# EAGLE library part PSOC4100-CY8C4124PVI-432 (library openag-microcontrollers)
IC MCU 32BIT 16KB FLASH 28SSOP Description: ARM® Cortex®-M0 PSOC® 4 CY8C41xx Microcontroller IC 32-Bit 24MHz 16KB (16K x 8) FLASH 28-SSOP Technical Specifications: Core Processor: ARM® Cortex®-M0 Core Size: 32-Bit Core Speed: 24 MHz Connectivity: I²C, IrDA, LIN, Microwire, SmartCard, SPI, SSP, UART/USART Peripherals: Brown-out Detect/Reset, LVD, POR, PWM, WDT Number of IO: 24 Program Memory Size: 16KB (16K x 8) Program Memory Type: FLASH RAM Size: 4K x 8 Supply Voltage: 1.71 V ~ 5.5 V Data Converters: A/D 8x12b Oscillator Type: Internal Operating Temperature: -40°C ~ 85°C (TA) Package / Case: 28-SSOP (0.209", 5.30mm Width) Datasheet(s): PSoC 4100 Family <http://www.cypress.com/file/138651/download> Vendor(s): Digikey: 428-3348-ND <https://www.digikey.com/product-detail/en/cypress-semiconductor-corp/CY8C4124PVI-432/428-3348-ND/4895074>
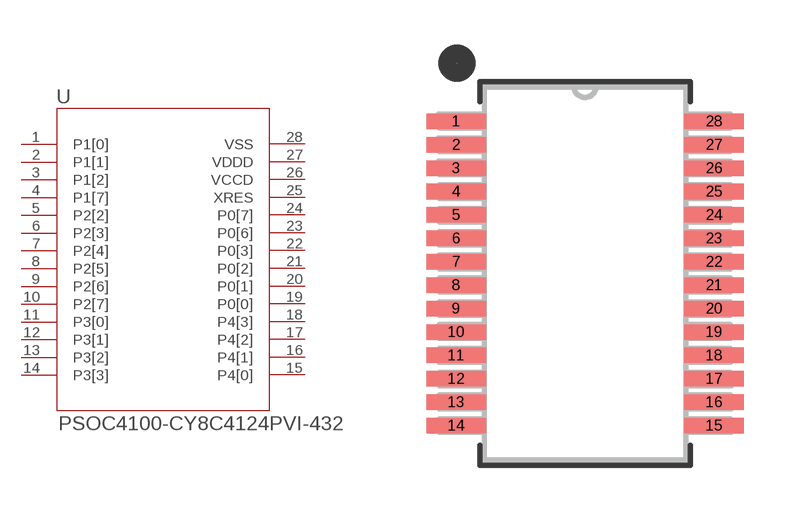
[diagram p2: symbol with the pads of SSOP-28; footprint SSOP-28]

Designator prefix U

## PSOC4100-CY8C4124PVI-432 (MANUFACTURER: Cypress; MPN: CY8C4124PVI-432; VALUE: PSOC4100; VENDOR: Digikey; VLINK: https://www.digikey.com/product-detail/en/cypress-semiconductor-corp/CY8C4124PVI-432/428-3348-ND/4895074; VPN: 428-3348-ND)  [SSOP-28]
1  P1[0]
2  P1[1]
3  P1[2]
4  P1[7]
5  P2[2]
6  P2[3]
7  P2[4]
8  P2[5]
9  P2[6]
10  P2[7]
11  P3[0]
12  P3[1]
13  P3[2]
14  P3[3]
15  P4[0]
16  P4[1]
17  P4[2]
18  P4[3]
19  P0[0]
20  P0[1]
21  P0[2]
22  P0[3]
23  P0[6]
24  P0[7]
25  XRES  in
26  VCCD  pwr
27  VDDD  pwr
28  VSS  pwr

## Footprint SSOP-28 (pad centres in mm)
smd 1.651 x 0.432: 1 -3.581,4.225; 2 -3.581,3.575; 3 -3.581,2.925; 4 -3.581,2.275; 5 -3.581,1.625; 6 -3.581,0.975; 7 -3.581,0.325; 8 -3.581,-0.325; 9 -3.581,-0.975; 10 -3.581,-1.625; 11 -3.581,-2.275; 12 -3.581,-2.925; 13 -3.581,-3.575; 14 -3.581,-4.225; 15 3.581,-4.225; 16 3.581,-3.575; 17 3.581,-2.925; 18 3.581,-2.275; 19 3.581,-1.625; 20 3.581,-0.975; 21 3.581,-0.325; 22 3.581,0.325; 23 3.581,0.975; 24 3.581,1.625; 25 3.581,2.275; 26 3.581,2.925; 27 3.581,3.575; 28 3.581,4.225